# EAGLE library part L4962/A (library ST Microelectronics)
SWITCHING REGULATOR
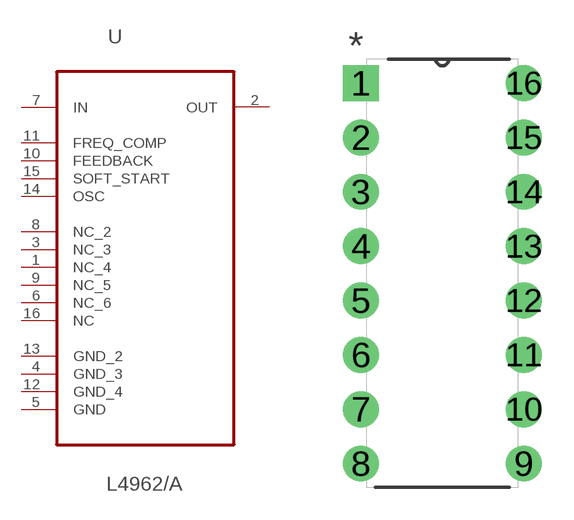
[diagram p36: symbol with the pads of DIP254P762X510-16; footprint DIP254P762X510-16]

Designator prefix U

## L4962/A (MPN: L4962/A; OC_FARNELL: 1094217; OC_NEWARK: 89K0748; PACKAGE: DIP-16; SUPPLIER: STMICROELECTRONICS)  [DIP254P762X510-16]
1  NC_4  nc
2  OUT  out
3  NC_3  nc
4  GND_3  pas
5  GND  pas
6  NC_6  nc
7  IN  pwr
8  NC_2  nc
9  NC_5  nc
10  FEEDBACK  in
11  FREQ_COMP  in
12  GND_4  pas
13  GND_2  pas
14  OSC  in
15  SOFT_START  pas
16  NC  nc

## Footprint DIP254P762X510-16 (pad centres in mm)
drill 1.118 square: 1 -7.62,17.78
drill 1.118: 2 -7.62,15.24; 3 -7.62,12.7; 4 -7.62,10.16; 5 -7.62,7.62; 6 -7.62,5.08; 7 -7.62,2.54; 8 -7.62,0; 9 0,0; 10 0,2.54; 11 0,5.08; 12 0,7.62; 13 0,10.16; 14 0,12.7; 15 0,15.24; 16 0,17.78